# EAGLE library part PCA9672 (library SKAARHOJ)
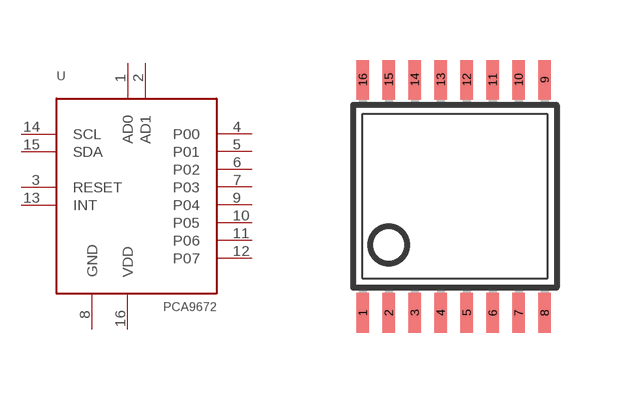
[diagram p69: symbol with the pads of TSSOP16; footprint TSSOP16]

Designator prefix -

## PCA9672  [TSSOP16]
1  AD0  in
2  AD1  in
3  RESET  in
4  P00
5  P01
6  P02
7  P03
8  GND  pwr
9  P04
10  P05
11  P06
12  P07
13  INT  out
14  SCL
15  SDA
16  VDD  pwr

## Footprint TSSOP16 (pad centres in mm)
smd 0.305 x 0.991: 1 -3.575,-2.918; 2 -2.925,-2.918; 3 -2.275,-2.918; 4 -1.625,-2.918; 5 -0.975,-2.918; 6 -0.325,-2.918; 7 0.325,-2.918; 8 0.975,-2.918; 9 0.975,2.918; 10 0.325,2.918; 11 -0.325,2.918; 12 -0.975,2.918; 13 -1.625,2.918; 14 -2.275,2.918; 15 -2.925,2.918; 16 -3.575,2.918